# Altium footprint library PCF1C221MCL1GS.PcbLib: 3 footprints
Each footprint in its own frame and in the unit in brackets; x right, y up, seen from the top. Pads: shape width x height; smd on the part's side, far side on the other; paste and mask are expansions set on the pad; w line width, h text height; cw(c..) or ccw(c..) is an arc to the next point about the centre after c.
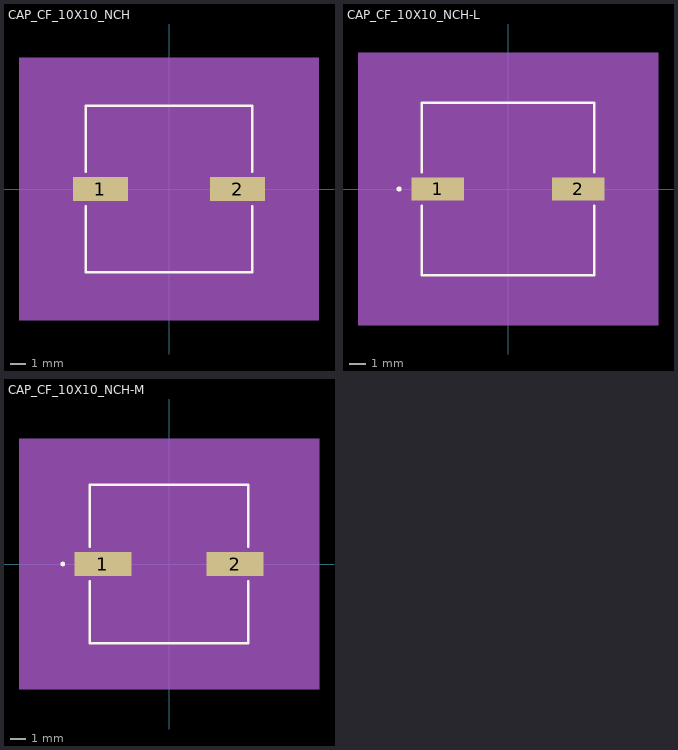
[diagram p0: the footprints below, top view; thin cyan lines are the x and y axes]

## CAP_CF_10X10_NCH [mil]
pads (2):
  rect 138x59 smd paste+0 mask+0: 1(-171.5,0) 2(171.5,0)
Top Overlay:
  lines w6: -208,-42.6 -208,-208 208,-208 208,-42.6 ; -208,42.6 -208,208 208,208 208,42.6
Mechanical 5:
  region: 375.5,-328 -375.5,-328 -375.5,328 375.5,328
Mechanical 13:
  circle w0: c-183,0 r0
  lines w1: -203,-101.5 -101.5,-203 ; -203,101.5 -101.5,203 ; -203,-203 203,-203 203,203 -203,203 -203,-203
Mechanical 15:
  region: -213,-39.5 -250.5,-39.5 -250.5,39.5 -213,39.5 -213,213 213,213 213,39.5 250.5,39.5 250.5,-39.5 213,-39.5 213,-213 -213,-213
  lines w6: -250.5,-39.5 -250.5,39.5 -213,39.5 -213,213 213,213 213,39.5 250.5,39.5 250.5,-39.5 213,-39.5 213,-213 -213,-213 -213,-39.5 -250.5,-39.5
3D body "CAP_CF_10X10_NCH.step": height 396.1, standoff 0, extent -220.51,-202.99 220.51,202.99

## CAP_CF_10X10_NCH-L [mil]
pads (2):
  rect 126x55 smd paste+0 mask+0: 1(-169.5,0) 2(169.5,0)
Top Overlay:
  circle w6: c-262.5,0 r3
  lines w6: -208,-40.6 -208,-208 208,-208 208,-40.6 ; -208,40.6 -208,208 208,208 208,40.6
Mechanical 5:
  region: 361.5,-328 -361.5,-328 -361.5,328 361.5,328
Mechanical 13:
  circle w0: c-183,0 r3
  lines w1: -203,-101.5 -101.5,-203 ; -203,101.5 -101.5,203 ; -203,-203 203,-203 203,203 -203,203 -203,-203
Mechanical 15:
  region: -207,-31.5 -236.5,-31.5 -236.5,31.5 -207,31.5 -207,207 207,207 207,31.5 236.5,31.5 236.5,-31.5 207,-31.5 207,-207 -207,-207
  lines w6: -236.5,-31.5 -236.5,31.5 -207,31.5 -207,207 207,207 207,31.5 236.5,31.5 236.5,-31.5 207,-31.5 207,-207 -207,-207 -207,-31.5 -236.5,-31.5
3D body "CAP_CF_10X10_NCH.step": height 396.1, standoff 0, extent -220.51,-202.99 220.51,202.99

## CAP_CF_10X10_NCH-M [mil]
pads (2):
  rect 150x63 smd paste+0 mask+0: 1(-173.5,0) 2(173.5,0)
Top Overlay:
  circle w6: c-278.5,0 r3
  lines w6: -208,-44.6 -208,-208 208,-208 208,-44.6 ; -208,44.6 -208,208 208,208 208,44.6
Mechanical 5:
  region: 393.5,-328 -393.5,-328 -393.5,328 393.5,328
Mechanical 13:
  circle w0: c-183,0 r3
  lines w1: -203,-101.5 -101.5,-203 ; -203,101.5 -101.5,203 ; -203,-203 203,-203 203,203 -203,203 -203,-203
Mechanical 15:
  region: -223,-51.5 -268.5,-51.5 -268.5,51.5 -223,51.5 -223,223 223,223 223,51.5 268.5,51.5 268.5,-51.5 223,-51.5 223,-223 -223,-223
  lines w6: -268.5,-51.5 -268.5,51.5 -223,51.5 -223,223 223,223 223,51.5 268.5,51.5 268.5,-51.5 223,-51.5 223,-223 -223,-223 -223,-51.5 -268.5,-51.5
3D body "CAP_CF_10X10_NCH.step": height 396.1, standoff 0, extent -220.51,-202.99 220.51,202.99